# Altium schematic symbol library RPSLib_Capacitors.SchLib: 33 symbols
Pins are listed as number, name and electrical type; pins without a type are passive.

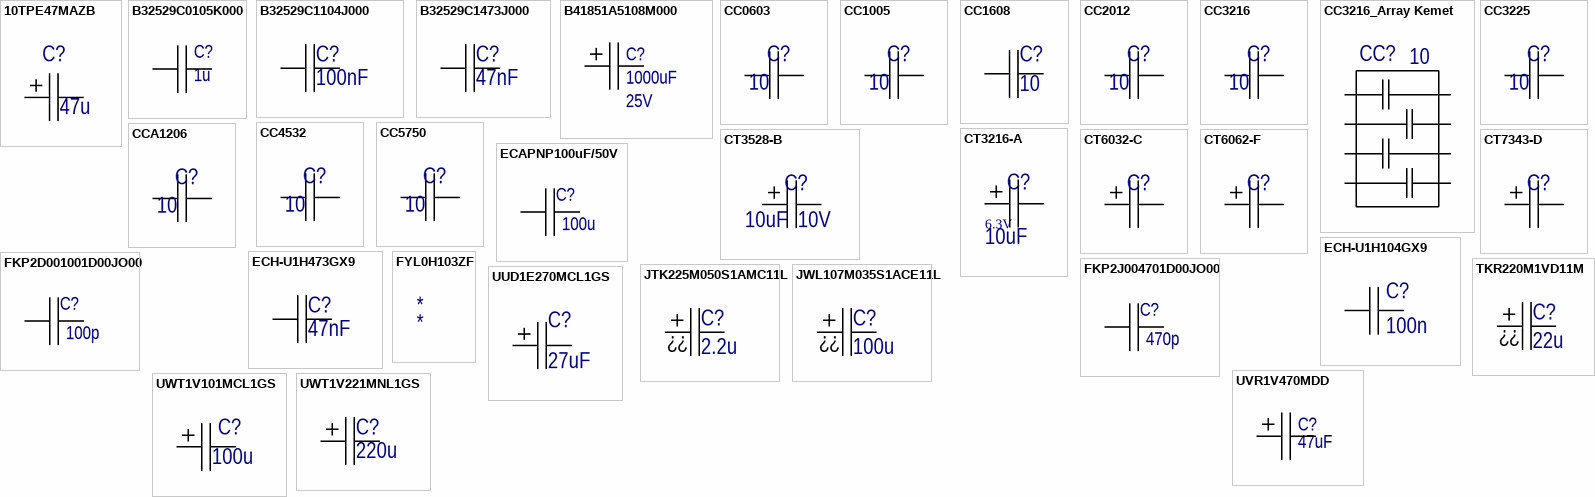
[diagram p0: symbols 10TPE47MAZB to UWT1V221MNL1GS]

## 10TPE47MAZB
designator C?  value 47u  (hidden comment: 10TPE47MAZB)
CAP TANT POLY 47UF 10V 1411; Manufacturer: Panasonic; Tolerance: 20%; Leakage Current: 47uA; Polarity: Polar; ESR (Equivalent Series Resistance): 35mR; Ripple Current: 1.4A; Dissipation Factor: 8%; Supplier 1: Digi-Key; Manufacturer Part Number: 10TPE47MAZB; RoHS: Yes; Category: Tantalum Capacitors; Stock 1: 9220; Pricing 1: 1=1,15000, 10=0,90800, 100=0,68080, 500=0,51436, 1000=0,45386 (USD); Mount: Surface Mount; Case/Package: Molded; Number of Pins: 2; Case Code (Metric): 3528; Case Code (Imperial): 1411; Min Operating Temperature: -55°C; Max Operating Temperature: 105°C; Package Quantity: 2000; Packaging: Tape and Reel; Capacitance: 47uF; Voltage Rating: 10V; Voltage Rating (DC): 10V; Termination: SMD/SMT; Voltage: 10V; Features: General Purpose; Length: 3.5mm; Height: 1.9mm; Width: 0.11inch; Height - Seated (Max): 0.079inch; Depth: 2.8mm; Radiation Hardening: No; REACH SVHC: No SVHC; Lead Free: Lead Free; ComponentLink1URL: https://datasheet.ciiva.com/24022/tpe-os-262406-24022443.pdf?src-supplier=Mouser; ComponentLink1Description: https://datasheet.ciiva.com/24022/tpe-os-262406-24022443.pdf?src-supplier=Mouser; ComponentLink2URL: https://datasheet.ciiva.com/48674/aaa8000ce5-48674989.pdf?src-supplier=Avnet; ComponentLink2Description: https://datasheet.ciiva.com/48674/aaa8000ce5-48674989.pdf?src-supplier=Avnet; Supplier Part Number 1: P16230CT-ND
footprint CAPMP3528X19N-B (Molded Capacitor, 2-Leads, Body 3.50x2.80mm, IPC Medium Density)
pins: 1, 2

## B32529C0105K000
designator C?  Capacitance: 1u  (hidden comment: B32529C0105K000)
Cap Film 1uF 63V PET 10% (7.3 X 4.5 X 9.5mm) Radial Stacked 5mm 125C Automotive Bulk; Manufacturer: TDK EPCOS; Voltage: 63; Supplier 1: Digikey; Manufacturer Part Number: B32529C0105K000; RoHS: Yes; Category: Film Capacitors; Stock 1: 18464; Pricing 1: 1=0,66, 10=0,442, 50=0,3518, 100=0,2905, 500=0,22698, 1500=0,19293, 3000=0,18158, 6000=0,17024 (USD); ComponentLink1URL: https://datasheet.ciiva.com/26855/getdatasheetpartid-381676-26855290.pdf?src-supplier=Verical; ComponentLink1Description: https://datasheet.ciiva.com/26855/getdatasheetpartid-381676-26855290.pdf?src-supplier=Verical; ComponentLink2URL: https://datasheet.ciiva.com/48779/1855755-48779397.pdf?src-supplier=Element14; ComponentLink2Description: https://datasheet.ciiva.com/48779/1855755-48779397.pdf?src-supplier=Element14; Supplier Part Number 1: 495-2470-ND
footprint B32529 Epcos 4.5x7.3x9.5 (Epcos Film capacitor, 2-Leads, Pin Spacing 5mm. 4.5x7.3, height 9.5)
pins: 1, 2

## B32529C1104J000
designator C?  Capacitance: 100nF  (hidden comment: B32529C1104J000)
Film Capacitor, Polyethylene Terephthalate, 100V, 5% +Tol, 5% -Tol, 0.1uF, Through Hole Mount; Manufacturer: TDK EPCOS; Dielectric Material: Polyester; Dielectric: PET; Lead Diameter: 0.5mm; Supplier 1: Digi-Key; Manufacturer Part Number: B32529C1104J000; RoHS: Yes; Category: Film Capacitors; Pricing 1: 1=0,32000, 10=0,21800, 50=0,14540, 100=0,12360, 500=0,08726, 1000=0,07635, 2500=0,07272, 5000=0,06726 (USD); Case/Package: Radial; Min Operating Temperature: -55°C; Max Operating Temperature: 125°C; Voltage Rating (DC): 100V; Packaging: Bulk; Tolerance: 5%; Voltage Rating: 100V; Length: 7.2mm; Depth: 2.5mm; Lead Pitch: 5mm; Radiation Hardening: No; REACH SVHC: Unknown; ComponentLink1URL: https://datasheet.ciiva.com/26855/getdatasheetpartid-698338-26855354.pdf?src-supplier=Verical; ComponentLink1Description: https://datasheet.ciiva.com/26855/getdatasheetpartid-698338-26855354.pdf?src-supplier=Verical; Supplier Part Number 1: 495-1147-ND
pins: 1, 2

## B32529C1473J000
designator C?  Capacitance: 47nF  (hidden comment: B32529C1473J000)
Film Capacitor, Polyethylene Terephthalate, 100V, 5% +Tol, 5% -Tol, 0.047uF, Through Hole Mount; Manufacturer: TDK EPCOS; Dielectric Material: Polyester; Dielectric: PET; Lead Diameter: 0.5mm; Supplier 1: Digi-Key; Manufacturer Part Number: B32529C1473J000; RoHS: Yes; Category: Film Capacitors; Stock 1: 125; Pricing 1: 1=0,32000, 10=0,21800, 50=0,14540, 100=0,12360, 500=0,08726, 1000=0,07635, 2500=0,07272, 5000=0,06726 (USD); Mount: Through Hole; Case/Package: Radial; Contact Plating: Tin,Matte; Min Operating Temperature: -55°C; Max Operating Temperature: 125°C; Tolerance: 5%; Packaging: Bulk; Voltage Rating (DC): 100V; Termination: Radial; Length: 7.2mm; Depth: 2.5mm; Lead Pitch: 5mm; RoHS Compliant: Yes; ComponentLink1URL: http://components.arrow.com/part/dataview/0323_01826041?src-supplier=Arrow+Europe; ComponentLink1Description: http://components.arrow.com/part/dataview/0323_01826041?src-supplier=Arrow+Europe; ComponentLink2URL: https://www.tdk-electronics.tdk.com/inf/20/20/db/fc_2009/B32520_529.pdf?src-supplier=Digi-Key; ComponentLink2Description: https://www.tdk-electronics.tdk.com/inf/20/20/db/fc_2009/B32520_529.pdf?src-supplier=Digi-Key; ComponentLink3URL: http://www.epcos.com/inf/20/20/db/fc_2009/MKT_B32520_529.pdf?src-supplier=Avnet; ComponentLink3Description: http://www.epcos.com/inf/20/20/db/fc_2009/MKT_B32520_529.pdf?src-supplier=Avnet; Supplier Part Number 1: 495-1143-ND
pins: 1, 2

## B41851A5108M000
designator C?  value 1000uF  Voltage Rating (DC): 25V  (hidden comment: B41851A5108M000)
Cap Aluminum 1000uF 25V 20% (10 X 20mm) Radial 5mm 0.27 Ohm 680mA 2000 hr 105°C Bulk; Manufacturer: TDK EPCOS; Life (Hours): 2000Hour; Supplier 1: Digikey; Manufacturer Part Number: B41851A5108M000; RoHS: Yes; Category: Capacitors; Stock 1: 71; Pricing 1: 1=0,72, 10=0,522, 50=0,4562, 100=0,3716, 500=0,30408, 1000=0,26184, 2500=0,24495, 5000=0,23462 (USD); Case/Package: Radial; Max Operating Temperature: 105°C; Capacitance: 1000uF; Packaging: Bulk; Package Quantity: 500; Tolerance: 20%; Termination: Radial; Series: Standard; Diameter: 10mm; Length: 20mm; RoHS Compliant: Yes; ComponentLink1URL: http://www.mouser.com/ds/2/400/tdk_b41851_b43851-610298.pdf?src-supplier=Mouser; ComponentLink1Description: http://www.mouser.com/ds/2/400/tdk_b41851_b43851-610298.pdf?src-supplier=Mouser; ComponentLink2URL: https://en.tdk.eu/inf/20/30/db/aec_2013/B41851_B43851.pdf?src-supplier=Digikey; ComponentLink2Description: https://en.tdk.eu/inf/20/30/db/aec_2013/B41851_B43851.pdf?src-supplier=Digikey; ComponentLink3URL: http://www.epcos.com/inf/20/30/db/aec_2011/B41851__B43851.pdf?src-supplier=Avnet; ComponentLink3Description: http://www.epcos.com/inf/20/30/db/aec_2011/B41851__B43851.pdf?src-supplier=Avnet; Supplier Part Number 1: 495-B41851A5108M000-ND
footprint CapAlu-10x20x5 (THD, 2-Leads, Dia 10mm, Body Length 20mm, Pin Spacing 5mm, Polarized)
pins: 1, 2

## CC0603
designator C?  value 10  (hidden comment: CC0603)
Конденсатор 0.6х0.3 мм; Voltage: *; Type: *; PartNo: *; Supplier Part Number 1: *; Supplier 1: *; РКД Наименование: *; Manufacturer: *; Manufacturer Part Number: *
footprint CAPC0603X02N (Chip Capacitor, 2-Leads, Body 0.60x0.30mm, IPC Medium Density)
pins: 1, 2

## CC1005
designator C?  value 10  (hidden comment: *)
Конденсатор 1.0x0.5 мм; Voltage: 16; Tolerance: ±5%; РКД Наименование: CC1005M - NP0 - 16 V - 10 pF ±5%; Type: *; PartNo: *; Supplier Part Number 1: *; Supplier 1: *; Manufacturer: *; Manufacturer Part Number: *
footprint CAPC1005X05N (Chip Capacitor, 2-Leads, Body 1.00x0.50mm, IPC Medium Density)
pins: 1, 2

## CC1608
designator C?  value 10  (hidden comment: *)
Конденсатор 1.6x0.8 мм; Tolerance: ±10%; ТКЕ: X7R; РКД Наименование: CC1608M - NP0 - 16 V - 10 pF ±10%; Voltage: *; Type: *; PartNo: *; Supplier Part Number 1: *; Supplier 1: *; Manufacturer: *; Manufacturer Part Number: *
footprint CAPC1608X09L (Chip Capacitor, 2-Leads, Body 1.60x0.80mm, IPC High Density)
footprint CAPC1608X05N (Chip Capacitor, 2-Leads, Body 1.60x0.80mm, IPC Medium Density)
pins: 1, 2

## CC2012
designator C?  value 10  (hidden comment: *)
Конденсатор 2.0x1.2 мм; Voltage: *; Type: *; PartNo: *; Supplier Part Number 1: *; Supplier 1: *; РКД Наименование: *; Manufacturer: *; Manufacturer Part Number: *
footprint CAPC2012X06N (Chip Capacitor, 2-Leads, Body 2.00x1.25mm, IPC Medium Density)
pins: 1, 2

## CC3216
designator C?  value 10  (hidden comment: *)
Конденсатор 3.2x1.6 мм; Tolerance: ±5%; Voltage: *; Type: *; PartNo: *; Supplier Part Number 1: *; Supplier 1: *; РКД Наименование: *; Manufacturer: *; Manufacturer Part Number: *
footprint CAPC3216X12L (Chip Capacitor, 2-Leads, Body 3.20x1.60mm, IPC High Density)
pins: 1, 2

## CC3216_Array Kemet
designator CC?  value 10  (hidden comment: *)
Конденсатор массиы 3,2x1.6 мм; Manufacturer: Kemet; Tolerance: ±10%; ТКЕ: X7R; Voltage: *; Type: *; PartNo: *; Supplier Part Number 1: *; Supplier 1: *; Manufacturer Part Number: *
footprint CAF-80P320X160-8N (Chip Array, Flat, 8-Leads, Pitch 0,80mm,  Body 3,20x1,60mm,  IPC Medium Density)
pins: 1, 2, 3, 4, 5, 6, 7, 8

## CC3225
designator C?  value 10  (hidden comment: *)
Конденсатор 3.2x2.5 мм; Voltage: *; Type: *; PartNo: *; Supplier Part Number 1: *; Supplier 1: *; Manufacturer: *; Manufacturer Part Number: *
footprint CAPC3225X28N (Chip Capacitor, 2-Leads, Body 3.20x2.50mm, IPC Medium Density)
pins: 1, 2

## CC4532
designator C?  value 10  (hidden comment: *)
Конденсатор 4.5x3.2 мм; Voltage: *; Type: *; PartNo: *; Supplier Part Number 1: *; Supplier 1: *; Manufacturer: *; Manufacturer Part Number: *
footprint CAPC4532X25N (Chip Capacitor, 2-Leads, Body 4.50x3.20mm, IPC Medium Density)
pins: 1, 2

## CC5750
designator C?  value 10  (hidden comment: *)
Конденсатор 5.7x5.0 мм; Voltage: *; Type: *; PartNo: *; Supplier Part Number 1: *; Supplier 1: *; Manufacturer: *; Manufacturer Part Number: *
footprint CAPC5750X23N (Chip Capacitor, 2-Leads, Body 5.70x5.00mm, IPC Medium Density)
pins: 1, 2

## CCA1206
designator C?  value 10  (hidden comment: *)
Конденсатор керамический выводной 1206, 5 мм шаг; Voltage: *; Type: *; PartNo: *; Supplier Part Number 1: *; Supplier 1: *; РКД Наименование: *; Manufacturer: *; Manufacturer Part Number: *
footprint CAPC1206-radial (THD, 2-Leads, Pin Spacing 5mm)
pins: 1, 2

## CT3216-A
designator C?  value 10uF  Voltage: 6.3V  (hidden comment: *)
Tantalum Surface Mount Capacitor, Size A; Type: *; PartNo: *; Supplier Part Number 1: *; Supplier 1: *; Manufacturer: *; Manufacturer Part Number: *; Tolerance: *
footprint CAPMP3216X16N-A (Molded Capacitor, 2-Leads, Body 3.20x1.60mm, IPC Medium Density)
pins: 1, 2

## CT3528-B
designator C?  value 10uF  Voltage: 10V  (hidden comment: *)
Tantalum Surface Mount Capacitor, Size B; Type: *; Supplier Part Number 1: *; Supplier 1: *; Manufacturer: *; Manufacturer Part Number: *; Tolerance: *; PartNo: *
footprint CAPMP3528X19N-B (Molded Capacitor, 2-Leads, Body 3.50x2.80mm, IPC Medium Density)
pins: 1, 2

## CT6032-C
designator C?  (value not drawn)
Tantalum Surface Mount Capacitor, Size C; Type: *; Value: *; Voltage: *; PartNo: *; Supplier Part Number 1: *; Supplier 1: *; Manufacturer: *; Manufacturer Part Number: *; Tolerance: *
footprint CAPMP6032X25N-C (Molded Capacitor, 2-Leads, Body 6.00x3.20mm, IPC Medium Density)
pins: 1, 2

## CT6062-F
designator C?  (value not drawn)
Tantalum Surface Mount Capacitor, Size F; Type: *; Value: *; Voltage: *; PartNo: *; Supplier Part Number 1: *; Supplier 1: *; Manufacturer: *; Manufacturer Part Number: *; Tolerance: *
footprint CAPMP6062X47N-F (Molded Capacitor, 2-Leads, Body 6.00x6.20mm, IPC Medium Density)
pins: 1, 2

## CT7343-D
designator C?  (value not drawn)
Tantalum Surface Mount Capacitor, Size D; Tolerance: ±; Type: *; Value: *; Voltage: *; PartNo: *; Supplier Part Number 1: *; Supplier 1: *; Manufacturer: *; Manufacturer Part Number: *
footprint CAPMP7343X28N-D (Molded Capacitor, 2-Leads, Body 7.30x4.30mm, IPC Medium Density)
pins: 1, 2

## ECAPNP100uF/50V
designator C?  Capacitance: 100u  (hidden comment: ECAPNP100uF/50V)
Конденсатор электролитический алюминиевый неполярный 100мкФ 50В.  d10x6x7.2 PCM 5; Manufacturer: NoName; Voltage: 50; Manufacturer Part Number: ECAPNP100uF/50V; RoHS: No
footprint CapAlu-10x20x5-NP (THD, 2-Leads, Dia 10mm, Body Length 20mm, Pin Spacing 5mm, Non Polarized)
pins: 1, 2

## ECH-U1H104GX9
designator C?  Capacitance: 100n  (hidden comment: ECH-U1H104GX9)
CAP FILM 0.1UF 2% 50VDC 1913; Manufacturer: Panasonic; Dielectric Material: Polyphenylene; Material: Ceramic; Dielectric: PPS; Voltage Rating (DC): 50V; Life (Hours): 500Hour; Insulation Resistance: 3GR; Dissipation Factor: 0.6%; Supplier 1: Digi-Key; Manufacturer Part Number: ECH-U1H104GX9; RoHS: Yes; Category: Film Capacitors; Stock 1: 15100; Pricing 1: 1=1,03000, 10=0,78000, 50=0,64780, 100=0,55780, 500=0,43182, 1000=0,37185 (USD); Mount: Surface Mount; Case/Package: 1812; Case Code (Metric): 4833; Case Code (Imperial): 1913; Contact Plating: Copper,Tin,Silver; Min Operating Temperature: -55°C; Max Operating Temperature: 125°C; Tolerance: 2%; Packaging: Tape and Reel; Voltage Rating: 50V; Package Quantity: 1; Termination: SMD/SMT; Voltage: 50V; Series: ECHU(X); Construction: Flat; Length: 4.8mm; Width: 3.3mm; Height: 2.1mm; Depth: 3.3mm; Height - Seated (Max): 0.091inch; Radiation Hardening: No; REACH SVHC: No SVHC; RoHS Compliant: Yes; Lead Free: Lead Free; ComponentLink1URL: https://datasheet.ciiva.com/14595/70067901-14595401.pdf?src-supplier=Allied+Electronics; ComponentLink1Description: https://datasheet.ciiva.com/14595/70067901-14595401.pdf?src-supplier=Allied+Electronics; ComponentLink2URL: https://datasheet.ciiva.com/46371/1719409-46371865.pdf?src-supplier=Element14; ComponentLink2Description: https://datasheet.ciiva.com/46371/1719409-46371865.pdf?src-supplier=Element14; ComponentLink3URL: https://datasheet.ciiva.com/30147/21abd0000ce13-30147818.pdf?src-supplier=Onlinecomponents.com; ComponentLink3Description: https://datasheet.ciiva.com/30147/21abd0000ce13-30147818.pdf?src-supplier=Onlinecomponents.com; ComponentLink4URL: https://datasheet.ciiva.com/31429/abd0000ce13-31429775.pdf?src-supplier=Farnell; ComponentLink4Description: https://datasheet.ciiva.com/31429/abd0000ce13-31429775.pdf?src-supplier=Farnell; ComponentLink5URL: https://datasheet.ciiva.com/11444/abd0000ce13-11444197.pdf?src-supplier=Avnet; ComponentLink5Description: https://datasheet.ciiva.com/11444/abd0000ce13-11444197.pdf?src-supplier=Avnet; ComponentLink6URL: https://datasheet.ciiva.com/17238/abd0000ce13-17238874.pdf?src-supplier=Avnet+Europe; ComponentLink6Description: https://datasheet.ciiva.com/17238/abd0000ce13-17238874.pdf?src-supplier=Avnet+Europe; ComponentLink7URL: https://datasheet.ciiva.com/16201/abd0000ce13-16201483.pdf?src-supplier=Future+Electronics; ComponentLink7Description: https://datasheet.ciiva.com/16201/abd0000ce13-16201483.pdf?src-supplier=Future+Electronics; ComponentLink8URL: https://datasheet.ciiva.com/31414/1719409-31414078.pdf?src-supplier=Farnell; ComponentLink8Description: https://datasheet.ciiva.com/31414/1719409-31414078.pdf?src-supplier=Farnell; Supplier Part Number 1: PCF1552CT-ND
footprint CAPC4833X23N-Film (Chip Capacitor, 2-Leads, Body 4,80x3,30mm, IPC Medium Density)
pins: 1, 2

## ECH-U1H473GX9
designator C?  Capacitance: 47nF  (hidden comment: ECH-U1H473GX9)
PANASONIC ELECTRONIC COMPONENTS   ECHU1H473GX9   Film Capacitor, ECHU(X) Series, 0.047 F,  2%, PPS (Polyphenylene Sulphide), 50 V; Material: Ceramic; Voltage Rating: 50V; Supplier 1: Digi-Key; Manufacturer: Panasonic; Manufacturer Part Number: ECH-U1H473GX9; RoHS: Yes; Category: Film Capacitors; Pricing 1: 1=1,00000, 10=0,76300, 50=0,63360, 100=0,54570, 500=0,42246, 1000=0,36378 (USD); Mount: Surface Mount,PCB; Case/Package: 1812; Case Code (Metric): 4833; Case Code (Imperial): 1913; Contact Plating: Copper,Tin,Silver; Dielectric Material: Polyphenylene; Min Operating Temperature: -55°C; Max Operating Temperature: 125°C; Tolerance: 2%; Dielectric: PPS; Packaging: Tape and Reel; Voltage Rating (DC): 50V; Package Quantity: 1; Termination: SMD/SMT; Voltage: 50V; Series: ECHU(X); Construction: Flat; Length: 4.8mm; Width: 3.3mm; Height: 1.5mm; Depth: 3.3mm; Height - Seated (Max): 0.067inch; Radiation Hardening: No; REACH SVHC: Unknown; Lead Free: Lead Free; RoHS Compliant: Yes; ComponentLink1URL: https://datasheet.ciiva.com/46371/1719409-46371861.pdf?src-supplier=Element14; ComponentLink1Description: https://datasheet.ciiva.com/46371/1719409-46371861.pdf?src-supplier=Element14; ComponentLink2URL: https://datasheet.ciiva.com/11444/abd0000ce13-11444456.pdf?src-supplier=Avnet; ComponentLink2Description: https://datasheet.ciiva.com/11444/abd0000ce13-11444456.pdf?src-supplier=Avnet; ComponentLink3URL: https://datasheet.ciiva.com/14597/70067901-14597102.pdf?src-supplier=Allied+Electronics; ComponentLink3Description: https://datasheet.ciiva.com/14597/70067901-14597102.pdf?src-supplier=Allied+Electronics; ComponentLink4URL: https://datasheet.ciiva.com/17238/abd0000ce13-17238886.pdf?src-supplier=Avnet+Europe; ComponentLink4Description: https://datasheet.ciiva.com/17238/abd0000ce13-17238886.pdf?src-supplier=Avnet+Europe; ComponentLink5URL: https://datasheet.ciiva.com/43470/1719409-43470600.pdf?src-supplier=Farnell; ComponentLink5Description: https://datasheet.ciiva.com/43470/1719409-43470600.pdf?src-supplier=Farnell; ComponentLink6URL: https://datasheet.ciiva.com/14603/70067901-14603642.pdf?src-supplier=Allied+Electronics; ComponentLink6Description: https://datasheet.ciiva.com/14603/70067901-14603642.pdf?src-supplier=Allied+Electronics; ComponentLink7URL: https://datasheet.ciiva.com/16394/abd0000ce13-16394396.pdf?src-supplier=Future+Electronics; ComponentLink7Description: https://datasheet.ciiva.com/16394/abd0000ce13-16394396.pdf?src-supplier=Future+Electronics; ComponentLink8URL: https://datasheet.ciiva.com/46378/1719409-46378127.pdf?src-supplier=Element14; ComponentLink8Description: https://datasheet.ciiva.com/46378/1719409-46378127.pdf?src-supplier=Element14; Supplier Part Number 1: PCF1548CT-ND
footprint CAPC4833X23N-Film (Chip Capacitor, 2-Leads, Body 4,80x3,30mm, IPC Medium Density)
pins: 1, 2

## FKP2D001001D00JO00
designator C?  Capacitance: 100p  (hidden comment: FKP2D001001D00JO00)
Film Capacitors FKP2 100 pF 100 VDC 4.5x6x7.2 PCM 5; Manufacturer: WIMA; Voltage: 100; Supplier 1: Digikey; Manufacturer Part Number: FKP2D001001D00JO00; RoHS: No; Pricing 1: 7800=0,15194 (USD)
footprint Wima FKP2 (THD, 2-Leads, 4.5x7.2x6. Body Length 11mm, Pin Spacing 2mm)
pins: 1, 2

## FKP2J004701D00JO00
designator C?  Capacitance: 470p  (hidden comment: FKP2J004701D00JO00)
Film Capacitors FKP 2 470 pF 630 VDC 4.5x6x7.2 PCM 5; Manufacturer: WIMA; Voltage: 630; Supplier 1: Digikey; Manufacturer Part Number: FKP2J004701D00JO00; RoHS: No; Pricing 1: 7800=0,15194 (USD); Supplier Part Number 1: 1928-FKP2J004701D00JO00TB-ND
footprint Wima FKP2 (THD, 2-Leads, 4.5x7.2x6. Body Length 11mm, Pin Spacing 2mm)
pins: 1, 2

## FYL0H103ZF
designator *
Manufacturer: KEMET; Manufacturer Part Number: FYL0H103ZF; Tolerance: 80%; Voltage Rating (DC): 5.5V; ESR (Equivalent Series Resistance): 300R; Capacitance: 10mF; Leakage Current: 15uA; Supplier 1: Digi-Key; Supplier Part Number 1: 399-10789-ND; Stock 1: 2732; Pricing 1: 1=1.72, 10=1.394, 100=1.0647, 500=0.8112, 1000=0.7098, 2500=0.6845, 5000=0.6591 (USD); Mount: Through Hole; Case/Package: Radial; Min Operating Temperature: -25°C; Max Operating Temperature: 70°C; Packaging: Bulk; Voltage Rating: 5.5V; Package Quantity: 2000; Termination: Radial; Voltage: 5.5V; Diameter: 11mm; Length: 5mm; Lead Pitch: 5.08mm; Height - Seated (Max): 0.217inch; Depth: 5mm; Radiation Hardening: No; REACH SVHC: No SVHC; ComponentLink1URL: https://api.kemet.com/component-edge/download/datasheet/FYL0H103ZF.pdf?src-supplier=Digi-Key; ComponentLink1Description: https://api.kemet.com/component-edge/download/datasheet/FYL0H103ZF.pdf?src-supplier=Digi-Key; ComponentLink2URL: http://www.farnell.com/datasheets/2024570.pdf?src-supplier=Element14; ComponentLink2Description: http://www.farnell.com/datasheets/2024570.pdf?src-supplier=Element14; ComponentLink3URL: http://uk.rs-online.com/webdocs/1517/0900766b81517508.pdf?src-supplier=RSComponents; ComponentLink3Description: http://uk.rs-online.com/webdocs/1517/0900766b81517508.pdf?src-supplier=RSComponents

## JTK225M050S1AMC11L
designator C?  value 2.2u  (hidden comment: JTK225M050S1AMC11L)
Radial type JAMICON TK 6x11; Voltage: 50; Tolerance: ±5%; Type: *; PartNo: *; Supplier Part Number 1: *; Supplier 1: *; Manufacturer: JAMICON; Manufacturer Part Number: JTK225M050S1AMC11L
footprint CapAlu-6x11 WLR (WLR THD, 2-Leads, Dia 6mm, Body Length 11mm, Pin Spacing 5mm, Non Polarized)
pins: 1, 2
text: ??

## JWL107M035S1ACE11L
designator C?  value 100u  (hidden comment: JWL107M035S1ACE11L)
Radial type JAMICON WL 6x11; Voltage: 35; Tolerance: ±5%; РКД Наименование: CC1005M - NP0 - 16 V - 10 pF ±5%; Type: *; PartNo: *; Supplier Part Number 1: *; Supplier 1: *; Manufacturer: JAMICON; Manufacturer Part Number: JWL107M035S1ACE11L
footprint CapAlu-6x11 WLR (WLR THD, 2-Leads, Dia 6mm, Body Length 11mm, Pin Spacing 5mm, Non Polarized)
pins: 1, 2
text: ??

## TKR220M1VD11M
designator C?  value 22u  (hidden comment: TKR220M1VD11M)
Radial type JAMICON TK 6x11; Voltage: 35; Tolerance: ±5%; Type: *; PartNo: *; Supplier Part Number 1: *; Supplier 1: *; Manufacturer: JAMICON; Manufacturer Part Number: TKR220M1VD11M
footprint CapAlu-6x11 WLR (WLR THD, 2-Leads, Dia 6mm, Body Length 11mm, Pin Spacing 5mm, Non Polarized)
pins: 1, 2
text: ??

## UUD1E270MCL1GS
designator C?  value 27uF  (hidden comment: *)
CAP ALUM 27UF 20% 25V SMD; Manufacturer: Nichicon; Manufacturer Part Number: UUD1E270MCL1GS; Ripple Current: 230mA; Impedance: 440mR; Leakage Current: 6.75uA; Life (Hours): 2000Hour; Supplier 1: Digi-Key; Stock 1: 2059; Pricing 1: 1=0,43000, 10=0,30400, 100=0,20040, 500=0,14844 (USD); RoHS: Yes; Case/Package: Radial; Number of Pins: 2; Min Operating Temperature: -55°C; Max Operating Temperature: 105°C; Tolerance: 20%; Capacitance: 27uF; Package Quantity: 1; Voltage Rating (DC): 25V; Packaging: Tape and Reel; Voltage Rating: 25V; Termination: SMD/SMT; Diameter: 6.3mm; Length: 5.8mm; Height: 5.8mm; Height - Seated (Max): 0.228inch; Radiation Hardening: No; Lead Free: Lead Free; ComponentLink1URL: https://datasheet.ciiva.com/5364/e-ud-5364230.pdf?src-supplier=Mouser; ComponentLink1Description: https://datasheet.ciiva.com/5364/e-ud-5364230.pdf?src-supplier=Mouser; ComponentLink2URL: https://datasheet.ciiva.com/111/e-ud-111623.pdf?src-supplier=Digi-Key; ComponentLink2Description: https://datasheet.ciiva.com/111/e-ud-111623.pdf?src-supplier=Digi-Key; ComponentLink3URL: https://datasheet.ciiva.com/17525/e-ud-17525990.pdf?src-supplier=Avnet+Europe; ComponentLink3Description: https://datasheet.ciiva.com/17525/e-ud-17525990.pdf?src-supplier=Avnet+Europe; ComponentLink4URL: https://datasheet.ciiva.com/111/e-ud-111624.pdf?src-supplier=Digi-Key; ComponentLink4Description: https://datasheet.ciiva.com/111/e-ud-111624.pdf?src-supplier=Digi-Key; ComponentLink5URL: https://datasheet.ciiva.com/111/e-ud-111625.pdf?src-supplier=Digi-Key; ComponentLink5Description: https://datasheet.ciiva.com/111/e-ud-111625.pdf?src-supplier=Digi-Key; Supplier Part Number 1: 493-2271-1-ND
footprint CAPAE7066X63N (Aluminum Electrolytic Capacitor, Body 6,60x6,60x6,30mm, IPC Medium Density)
pins: 1, 2

## UVR1V470MDD
designator C?  value 47uF  (hidden comment: UVR1V470MDD)
Capacitor, Aluminum Electrolytic, Cap 47uF 35V 20%, Radial 5X11 LS 5 mm; Manufacturer: Nichicon; Dielectric Material: Aluminium; Ripple Current: 130mA; Leakage Current: 49.35uA; Dissipation Factor: 0.14%; Life (Hours): 2000Hour; Lead Diameter: 0.5mm; Manufacturer Part Number: UVR1V470MDD; RoHS: Yes; Category: Aluminum Electrolytic Capacitors; Stock 1: 8959; Pricing 1: 1=0,27000, 10=0,18800, 50=0,12540, 100=0,10650, 500=0,07520, 1000=0,06581, 2500=0,06268, 5000=0,05797 (USD); Mount: Through Hole,PCB; Contact Plating: Tin,Matte; Min Operating Temperature: 2000°C; Max Operating Temperature: 85°C; Tolerance: 20%; Termination: Radial; Packaging: Bulk; Voltage Rating (DC): 35V; Package Quantity: 200; Voltage Rating: 35V; Series: VR; Voltage: 35V; Construction: RADIAL; Features: General Purpose; Diameter: 5mm; Length: 11mm; Height: 11mm; Lead Pitch: 2mm; Height - Seated (Max): 0.197inch; Radiation Hardening: No; RoHS Compliant: Yes; Lead Free: Lead Free; ComponentLink1URL: https://datasheet.ciiva.com/97/e-vr-97319.pdf?src-supplier=Digi-Key; ComponentLink1Description: https://datasheet.ciiva.com/97/e-vr-97319.pdf?src-supplier=Digi-Key; ComponentLink2URL: https://datasheet.ciiva.com/15165/getdatasheetpartid-54716-15165783.pdf?src-supplier=Verical; ComponentLink2Description: https://datasheet.ciiva.com/15165/getdatasheetpartid-54716-15165783.pdf?src-supplier=Verical; ComponentLink3URL: https://datasheet.ciiva.com/16332/e-vr-16332568.pdf?src-supplier=Future+Electronics; ComponentLink3Description: https://datasheet.ciiva.com/16332/e-vr-16332568.pdf?src-supplier=Future+Electronics; ComponentLink4URL: https://datasheet.ciiva.com/16544/e-vr-16544316.pdf?src-supplier=Avnet+Asia; ComponentLink4Description: https://datasheet.ciiva.com/16544/e-vr-16544316.pdf?src-supplier=Avnet+Asia; ComponentLink5URL: https://datasheet.ciiva.com/17527/e-vr-17527311.pdf?src-supplier=Avnet+Europe; ComponentLink5Description: https://datasheet.ciiva.com/17527/e-vr-17527311.pdf?src-supplier=Avnet+Europe; Supplier Part Number 1: 493-1080-ND; Supplier 1: Digi-Key; Capacitance: 47uF
footprint NIC-UVR-5x11-2_V (THD, 2-Leads, Dia 5mm, Body Length 11mm, Pin Spacing 2mm)
pins: 1, 2

## UWT1V101MCL1GS
designator C?  value 100u
CAP ALUM 100UF 20% 35V SMD; Manufacturer: Nichicon; Manufacturer Part Number: UWT1V101MCL1GS; Dielectric Material: Aluminium; Ripple Current: 84mA; Leakage Current: 3uA; Life (Hours): 1000Hour; Dissipation Factor: 0.14%; Lead Diameter: 0.8mm; Supplier 1: Digi-Key; Stock 1: 198740; Pricing 1: 1=0,42000, 10=0,29400, 100=0,17630 (USD); RoHS: Yes; Mount: Surface Mount,PCB; Case/Package: Radial; Number of Pins: 2; Min Operating Temperature: -55°C; Max Operating Temperature: 105°C; Capacitance: 100u; Tolerance: 20%; Ripple Current (AC): 84mA; Voltage Rating: 35V; Packaging: Tape and Reel; Package Quantity: 900; Voltage Rating (DC): 35V; Termination: SMD/SMT; Voltage: 35V; Diameter: 6.3mm; Length: 7.7mm; Height: 7.7mm; Lead Pitch: 2.2mm; Height - Seated (Max): 0.303inch; Radiation Hardening: No; REACH SVHC: No SVHC; Lead Free: Lead Free; ComponentLink1URL: https://datasheet.ciiva.com/96/e-wt-96659.pdf?src-supplier=Digi-Key; ComponentLink1Description: https://datasheet.ciiva.com/96/e-wt-96659.pdf?src-supplier=Digi-Key; ComponentLink2URL: https://datasheet.ciiva.com/96/e-wt-96660.pdf?src-supplier=Digi-Key; ComponentLink2Description: https://datasheet.ciiva.com/96/e-wt-96660.pdf?src-supplier=Digi-Key; ComponentLink3URL: https://datasheet.ciiva.com/96/e-wt-96661.pdf?src-supplier=Digi-Key; ComponentLink3Description: https://datasheet.ciiva.com/96/e-wt-96661.pdf?src-supplier=Digi-Key; ComponentLink4URL: https://datasheet.ciiva.com/11778/0900766b80fa3a91-11778473.pdf?src-supplier=RSComponents; ComponentLink4Description: https://datasheet.ciiva.com/11778/0900766b80fa3a91-11778473.pdf?src-supplier=RSComponents; ComponentLink5URL: https://datasheet.ciiva.com/15199/getdatasheetpartid-450031-15199274.pdf?src-supplier=Verical; ComponentLink5Description: https://datasheet.ciiva.com/15199/getdatasheetpartid-450031-15199274.pdf?src-supplier=Verical; ComponentLink6URL: https://datasheet.ciiva.com/17528/e-wt-17528043.pdf?src-supplier=Avnet+Europe; ComponentLink6Description: https://datasheet.ciiva.com/17528/e-wt-17528043.pdf?src-supplier=Avnet+Europe; ComponentLink7URL: https://datasheet.ciiva.com/11687/e-wt-11687372.pdf?src-supplier=Avnet; ComponentLink7Description: https://datasheet.ciiva.com/11687/e-wt-11687372.pdf?src-supplier=Avnet; ComponentLink8URL: https://datasheet.ciiva.com/16294/e-wt-16294316.pdf?src-supplier=Future+Electronics; ComponentLink8Description: https://datasheet.ciiva.com/16294/e-wt-16294316.pdf?src-supplier=Future+Electronics; Supplier Part Number 1: 493-2203-1-ND
footprint CAPAE7066X78N (Aluminum Electrolytic Capacitor, Body 6,60x6,60x7,80mm, IPC Medium Density)
pins: 1, 2

## UWT1V221MNL1GS
designator C?  Capacitance: 220u  (hidden comment: *)
CAP ALUM 220UF 20% 35V SMD; Manufacturer: Nichicon; Manufacturer Part Number: UWT1V221MNL1GS; Dielectric Material: Aluminium; Ripple Current: 190mA; Leakage Current: 3uA; Life (Hours): 1000Hour; Dissipation Factor: 0.14%; Lead Diameter: 1.1mm; Supplier 1: Digi-Key; Stock 1: 511777; Pricing 1: 1=0,51000, 10=0,36300, 100=0,23900 (USD); RoHS: Yes; Mount: Surface Mount; Case/Package: Radial; Number of Pins: 2; Min Operating Temperature: -55°C; Max Operating Temperature: 105°C; Tolerance: 20%; Packaging: Tape and Reel; Package Quantity: 500; Voltage Rating: 35V; Voltage Rating (DC): 35V; Ripple Current (AC): 190mA; Termination: SMD/SMT; Voltage: 35V; Diameter: 8mm; Length: 10mm; Height: 10mm; Lead Pitch: 0.327inch; Height - Seated (Max): 0.394inch; Radiation Hardening: No; REACH SVHC: No SVHC; Lead Free: Lead Free; ComponentLink1URL: https://datasheet.ciiva.com/11776/0900766b80fa3a91-11776929.pdf?src-supplier=RSComponents; ComponentLink1Description: https://datasheet.ciiva.com/11776/0900766b80fa3a91-11776929.pdf?src-supplier=RSComponents; ComponentLink2URL: https://datasheet.ciiva.com/7793/e-wt-7793511.pdf?src-supplier=Element14; ComponentLink2Description: https://datasheet.ciiva.com/7793/e-wt-7793511.pdf?src-supplier=Element14; ComponentLink3URL: https://datasheet.ciiva.com/16295/e-wt-16295384.pdf?src-supplier=Future+Electronics; ComponentLink3Description: https://datasheet.ciiva.com/16295/e-wt-16295384.pdf?src-supplier=Future+Electronics; ComponentLink4URL: https://datasheet.ciiva.com/28458/1910938-28458522.pdf?src-supplier=Element14; ComponentLink4Description: https://datasheet.ciiva.com/28458/1910938-28458522.pdf?src-supplier=Element14; ComponentLink5URL: https://datasheet.ciiva.com/15199/getdatasheetpartid-212340-15199275.pdf?src-supplier=Verical; ComponentLink5Description: https://datasheet.ciiva.com/15199/getdatasheetpartid-212340-15199275.pdf?src-supplier=Verical; ComponentLink6URL: https://datasheet.ciiva.com/97/e-wt-97116.pdf?src-supplier=Digi-Key; ComponentLink6Description: https://datasheet.ciiva.com/97/e-wt-97116.pdf?src-supplier=Digi-Key; ComponentLink7URL: https://datasheet.ciiva.com/97/e-wt-97117.pdf?src-supplier=Digi-Key; ComponentLink7Description: https://datasheet.ciiva.com/97/e-wt-97117.pdf?src-supplier=Digi-Key; ComponentLink8URL: https://datasheet.ciiva.com/97/e-wt-97118.pdf?src-supplier=Digi-Key; ComponentLink8Description: https://datasheet.ciiva.com/97/e-wt-97118.pdf?src-supplier=Digi-Key; Supplier Part Number 1: 493-2205-1-ND
footprint CAPAE8983X105N (Aluminum Electrolytic Capacitor, Body 8,30x8,30x10,50mm, IPC Medium Density)
pins: 1, 2